# EAGLE library part USBMICRO-DX4R005JJ2 (library awqua_eagle_library)
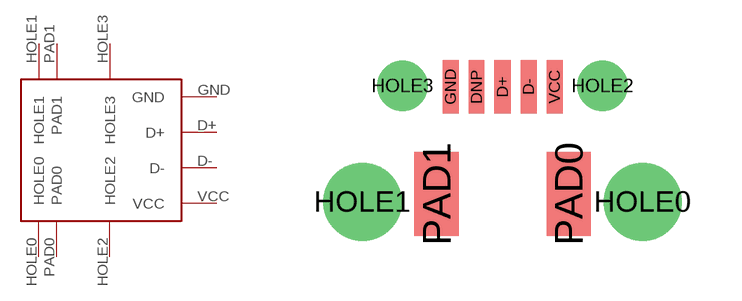
[diagram p19: symbol with the pads of USBMICRO-DX4R005JJ2; footprint USBMICRO-DX4R005JJ2]

Designator prefix -

## USBMICRO-DX4R005JJ2  [USBMICRO-DX4R005JJ2]
D+  D+
D-  D-
GND  GND
HOLE0  HOLE0
HOLE1  HOLE1
HOLE2  HOLE2
HOLE3  HOLE3
PAD0  PAD0
PAD1  PAD1
VCC  VCC

## Footprint USBMICRO-DX4R005JJ2 (pad centres in mm)
smd 0.4 x 1.35: D+ 0,4.125; D- 0.65,4.125; DNP -0.65,4.125; GND -1.3,4.125; VCC 1.3,4.125
drill 1.3 pad 1.9: HOLE0 3.5,1.25; HOLE1 -3.5,1.25
drill 0.75 pad 1.15: HOLE2 2.5,4.15; HOLE3 -2.5,4.15
smd 1.1 x 2.1: PAD0 1.65,1.45; PAD1 -1.65,1.45